# Altium schematic symbol library WE-OLRM.SchLib: 6 symbols
Pins are listed as number, name and electrical type; pins without a type are passive.

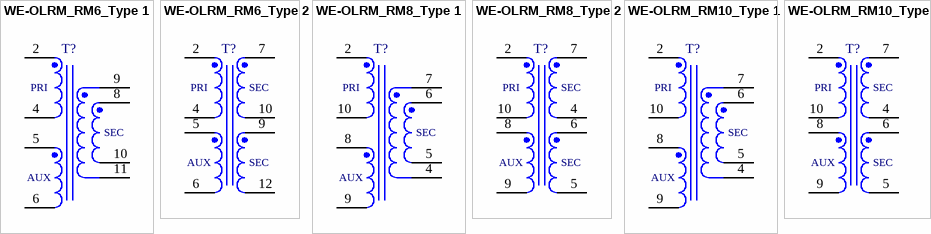
[diagram p0: symbols WE-OLRM_RM6_Type 1 to WE-OLRM_RM10_Type 2]

## WE-OLRM_RM6_Type 1
designator T?
pins: 2, 4, 5, 6, 8, 9, 10, 11
text: PRI; SEC; AUX

## WE-OLRM_RM6_Type 2
designator T?
pins: 2, 4, 5, 6, 7, 9, 10, 12
text: PRI; SEC; AUX

## WE-OLRM_RM8_Type 1
designator T?
pins: 2, 4, 5, 6, 7, 8, 9, 10
text: PRI; SEC; AUX

## WE-OLRM_RM8_Type 2
designator T?
pins: 2, 4, 5, 6, 7, 8, 9, 10
text: PRI; SEC; AUX

## WE-OLRM_RM10_Type 1
designator T?
pins: 2, 4, 5, 6, 7, 8, 9, 10
text: PRI; SEC; AUX

## WE-OLRM_RM10_Type 2
designator T?
pins: 2, 4, 5, 6, 7, 8, 9, 10
text: PRI; SEC; AUX